# Altium schematic symbol library SDP21_Main_Board_Schematic_Library.SchLib: 4 symbols
Pins are listed as number, name and electrical type; pins without a type are passive.

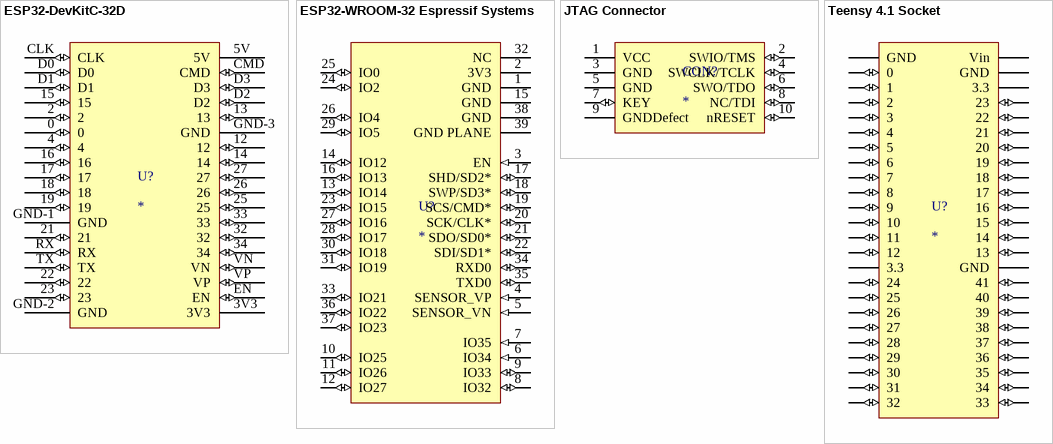
[diagram p0: symbols ESP32-DevKitC-32D to Teensy 4.1 Socket]

## ESP32-DevKitC-32D
designator U?
footprint ESP32-DevKitC-32D
pins: 0 (io), 2 (io), 3V3 (power), 4 (io), 5V (power), 12 (io), 13 (io), 14 (io), 15 (io), 16 (io), 17 (io), 18 (io), 19 (io), 21 (io), 22 (io), 23 (io), 25 (io), 26 (io), 27 (io), 32 (io), 33 (io), 34 (io), CLK (io), CMD (io), D0 (io), D1 (io), D2 (io), D3 (io), EN (io), GND-1 GND (power), GND-2 GND (power), GND-3 GND (power), RX (io), TX (io), VN (io), VP (io)

## ESP32-WROOM-32 Espressif Systems
designator U?
ESP32 BGA mounted on PCB w/ castellated holes
footprint Espressif ESP32 Castellated
pins: 1 GND (power) "Ground", 2 3V3 (power) "Power Supply", 3 EN (in) "Module-enable signal. Active high.", 4 SENSOR_VP (in) "GPIO36, ADC1_CH0, RTC_GPIO0", 5 SENSOR_VN (in) "GPIO39, ADC1_CH3, RTC_GPIO3", 6 IO34 (in) "GPIO34, ADC1_CH6, RTC_GPIO4", 7 IO35 (in) "GPIO35, ADC1_CH7, RTC_GPIO5", 8 IO32 (io) "GPIO32, XTAL_32K_P (32.768 kHz crystal oscillator input), ADC1_CH4,TOUCH9, RTC_GPIO9", 9 IO33 (io) "GPIO33, XTAL_32K_N (32.768 kHz crystal oscillator output), ADC1_CH5,TOUCH8, RTC_GPIO8", 10 IO25 (io) "GPIO25, DAC_1, ADC2_CH8, RTC_GPIO6, EMAC_RXD0", 11 IO26 (io) "GPIO26, DAC_2, ADC2_CH9, RTC_GPIO7, EMAC_RXD1", 12 IO27 (io) "GPIO27, ADC2_CH7, TOUCH7, RTC_GPIO17, EMAC_RX_DV", 13 IO14 (io) "GPIO14, ADC2_CH6, TOUCH6, RTC_GPIO16, MTMS, HSPICLK, HS2_CLK,SD_CLK, EMAC_TXD2", 14 IO12 (io) "GPIO12, ADC2_CH5, TOUCH5, RTC_GPIO15, MTDI, HSPIQ, HS2_DATA2,SD_DATA2, EMAC_TXD3", 15 GND (power) "Ground", 16 IO13 (io) "GPIO13, ADC2_CH4, TOUCH4, RTC_GPIO14, MTCK, HSPID, HS2_DATA3,SD_DATA3, EMAC_RX_ER", 17 SHD/SD2* (io) "GPIO9, SD_DATA2, SPIHD, HS1_DATA2, U1RXD", 18 SWP/SD3* (io) "GPIO10, SD_DATA3, SPIWP, HS1_DATA3, U1TXD", 19 SCS/CMD* (io) "GPIO11, SD_CMD, SPICS0, HS1_CMD, U1RTS", 20 SCK/CLK* (io) "GPIO6, SD_CLK, SPICLK, HS1_CLK, U1CTS", 21 SDO/SD0* (io) "GPIO7, SD_DATA0, SPIQ, HS1_DATA0, U2RTS", 22 SDI/SD1* (io) "GPIO8, SD_DATA1, SPID, HS1_DATA1, U2CTS", 23 IO15 (io) "GPIO15, ADC2_CH3, TOUCH3, MTDO, HSPICS0, RTC_GPIO13, HS2_CMD,SD_CMD, EMAC_RXD3", 24 IO2 (io) "GPIO2, ADC2_CH2, TOUCH2, RTC_GPIO12, HSPIWP, HS2_DATA0,SD_DATA0", 25 IO0 (io) "GPIO0, ADC2_CH1, TOUCH1, RTC_GPIO11, CLK_OUT1, EMAC_TX_CLK", 26 IO4 (io) "GPIO4, ADC2_CH0, TOUCH0, RTC_GPIO10, HSPIHD, HS2_DATA1,SD_DATA1, EMAC_TX_ER", 27 IO16 (io) "GPIO16, HS1_DATA4, U2RXD, EMAC_CLK_OUT", 28 IO17 (io) "GPIO17, HS1_DATA5, U2TXD, EMAC_CLK_OUT_180", 29 IO5 (io) "GPIO5, VSPICS0, HS1_DATA6, EMAC_RX_CLK", 30 IO18 (io) "GPIO18, VSPICLK, HS1_DATA7", 31 IO19 (io) "GPIO19, VSPIQ, U0CTS, EMAC_TXD0", 32 NC "-", 33 IO21 (io) "GPIO21, VSPIHD, EMAC_TX_EN", 34 RXD0 (io) "GPIO3, U0RXD, CLK_OUT2", 35 TXD0 (io) "GPIO1, U0TXD, CLK_OUT3, EMAC_RXD2", 36 IO22 (io) "GPIO22, VSPIWP, U0RTS, EMAC_TXD1", 37 IO23 (io) "GPIO23, VSPID, HS1_STROBE", 38 GND (power) "Ground", 39 GND PLANE (power) "Ground"

## JTAG Connector
designator CON?
footprint 5x2 - 50mil
pins: 1 VCC (power), 2 SWIO/TMS (io), 3 GND (power), 4 SWCLK/TCLK (io), 5 GND (power), 6 SWO/TDO (io), 7 KEY (io), 8 NC/TDI (io), 9 GNDDefect (power), 10 nRESET (io)

## Teensy 4.1 Socket
designator U?
Teensy 4.1
footprint Teensy 4.1 Socket
pins: 0 (io) "PWM/CRX2/CS1/RX1", 1 (io) "PWM/CTX2/MISO1/TX1", 2 (io) "PWM/OUT2", 3 (io) "PWM/LRCLK2", 3.3-1 3.3 (power), 3.3-2 3.3 (power) "3.3V (250 mA max)", 4 (io) "PWM/BCLK2", 5 (io) "PWM/IN2", 6 (io) "PWM/OUT1D", 7 (io) "PWM/OUT1A/RX2", 8 (io) "PWM/IN1/TX2", 9 (io) "PWM/OUT1C", 10 (io) "PWM/MQSR/CS", 11 (io) "PWM/CTX1/MOSI", 12 (io) "PWM/MQSL/MISO", 13 (io) "PWM/SCK/(LED)", 14 (io) "PWM/S-PDIF OUT/TX3/A0", 15 (io) "PWM/S-PDIF IN/RX3/A1", 16 (io) "SCL1/RX4/A2", 17 (io) "SDA1/TX4/A3", 18 (io) "PWM/SDA/A4", 19 (io) "PWM/SCL/A5", 20 (io) "LRCLK/TX5/A6", 21 (io) "BCLK1/RX5/A7", 22 (io) "PWM/CTX1/A8", 23 (io) "PWM/MCLK1/CRX1/A9", 24 (io) "PWM/SCL2/TX6/A10", 25 (io) "PWM/SDA2/RX6/A11", 26 (io) "MOSI1/A12", 27 (io) "SCK1/A13", 28 (io) "PWM/RX7", 29 (io) "PWM/TX7", 30 (io) "CRX3", 31 (io) "CTX3", 32 (io) "OUT1B", 33 (io) "PWM/MCLK2", 34 (io) "RX8", 35 (io) "TX8", 36 (io) "PWM/CS", 37 (io) "PWM/CS", 38 (io) "IN1/CS1/A14", 39 (io) "OUT1A/MISO1/A15", 40 (io) "A16", 41 (io) "A17", GND1 GND (power), GND2 GND (power), GND3 GND (power), Vin (power) "(3.6 to 5.5V)"